# EAGLE library part AR0822NPSC10SMTA0 (library ICs)
CMOS Image Sensor 3840H x 2160V 2µm x 2µm 75-PBGA (14x9.5)
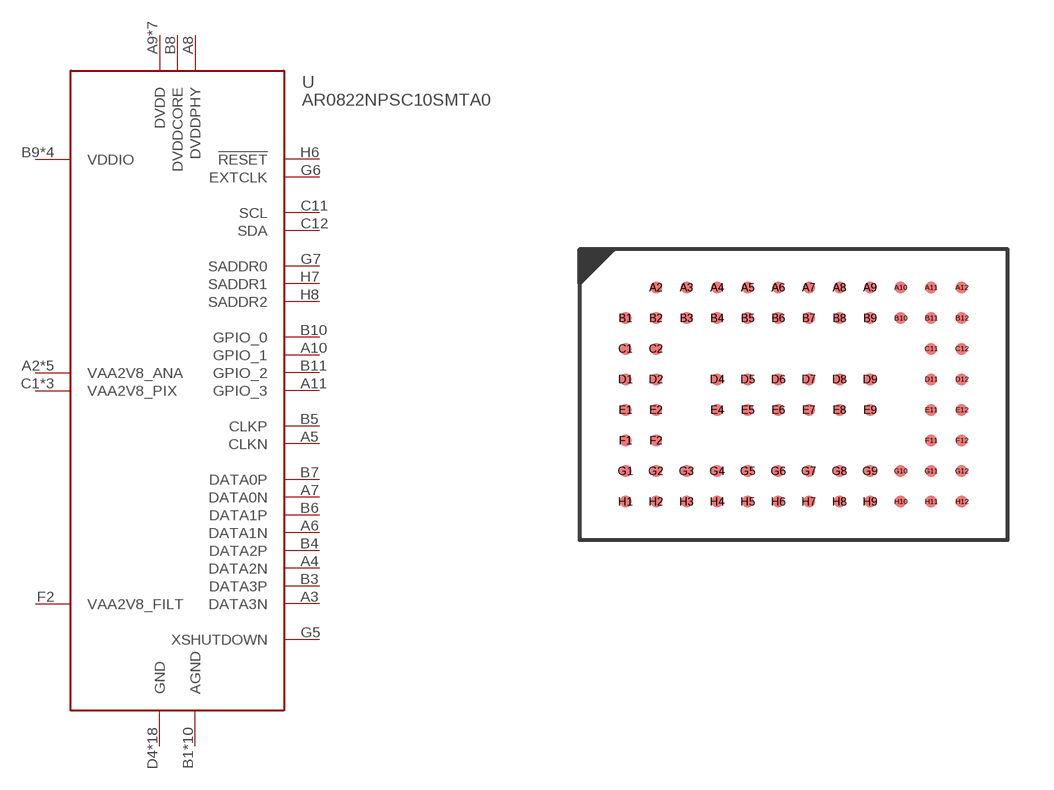
[diagram p341: symbol with the pads of PBGA75; footprint PBGA75]

Designator prefix U

## AR0822NPSC10SMTA0 (DIGIKEY: 5556-AR0822NPSC10SMTA0-DR-ND; HEIGHT: 2.1; PRICE_PER: 40.72; VALUE: AR0822)  [PBGA75]
A2  VAA2V8_ANA
A3  DATA3N
A4  DATA2N
A5  CLKN
A6  DATA1N
A7  DATA0N
A8  DVDDPHY
A9  DVDD
A10  GPIO_1
A11  GPIO_3
A12  DVDD
B1  AGND
B3  DATA3P
B4  DATA2P
B5  CLKP
B6  DATA1P
B7  DATA0P
B8  DVDDCORE
B9  VDDIO
B10  GPIO_0
B11  GPIO_2
B12  VDDIO
C1  VAA2V8_PIX
C11  SCL
C12  SDA
D1  VAA2V8_ANA
D2  AGND
D4  GND
D5  GND
D6  GND
D7  GND
D8  GND
D9  GND
D11  VDDIO
D12  DVDD
E1  VDDIO
E2  AGND
E4  GND
E5  GND
E6  GND
E7  GND
E8  GND
E9  GND
E11  GND
E12  DVDD
F1  DVDD
F2  VAA2V8_FILT
F12  VAA2V8_ANA
G1  VAA2V8_PIX
G2  DVDD
G3  AGND
G4  GND
G5  XSHUTDOWN
G6  EXTCLK
G7  SADDR0
G8  GND
G9  AGND
G10  GND
G11  AGND
G12  DVDD
H1  GND
H2  VAA2V8_ANA
H3  AGND
H4  AGND
H5  GND
H6  !RESET
H7  SADDR1
H8  SADDR2
H9  AGND
H10  AGND
H11  VAA2V8_PIX
H12  VAA2V8_ANA

## Footprint PBGA75 (pad centres in mm)
smd 0.4 x 0.4: A2 -4.5,3.5; A3 -3.5,3.5; A4 -2.5,3.5; A5 -1.5,3.5; A6 -0.5,3.5; A7 0.5,3.5; A8 1.5,3.5; A9 2.5,3.5; A10 3.5,3.5; A11 4.5,3.5; A12 5.5,3.5; B1 -5.5,2.5; B2 -4.5,2.5; B3 -3.5,2.5; B4 -2.5,2.5; B5 -1.5,2.5; B6 -0.5,2.5; B7 0.5,2.5; B8 1.5,2.5; B9 2.5,2.5; B10 3.5,2.5; B11 4.5,2.5; B12 5.5,2.5; C1 -5.5,1.5; C2 -4.5,1.5; C11 4.5,1.5; C12 5.5,1.5; D1 -5.5,0.5; D2 -4.5,0.5; D4 -2.5,0.5; D5 -1.5,0.5; D6 -0.5,0.5; D7 0.5,0.5; D8 1.5,0.5; D9 2.5,0.5; D11 4.5,0.5; D12 5.5,0.5; E1 -5.5,-0.5; E2 -4.5,-0.5; E4 -2.5,-0.5; E5 -1.5,-0.5; E6 -0.5,-0.5; E7 0.5,-0.5; E8 1.5,-0.5; E9 2.5,-0.5; E11 4.5,-0.5; E12 5.5,-0.5; F1 -5.5,-1.5; F2 -4.5,-1.5; F11 4.5,-1.5; F12 5.5,-1.5; G1 -5.5,-2.5; G2 -4.5,-2.5; G3 -3.5,-2.5; G4 -2.5,-2.5; G5 -1.5,-2.5; G6 -0.5,-2.5; G7 0.5,-2.5; G8 1.5,-2.5; G9 2.5,-2.5; G10 3.5,-2.5; G11 4.5,-2.5; G12 5.5,-2.5; H1 -5.5,-3.5; H2 -4.5,-3.5; H3 -3.5,-3.5; H4 -2.5,-3.5; H5 -1.5,-3.5; H6 -0.5,-3.5; H7 0.5,-3.5; H8 1.5,-3.5; H9 2.5,-3.5; H10 3.5,-3.5; H11 4.5,-3.5; H12 5.5,-3.5